# EAGLE library part SG5841 (library mgvc)
Highly Integrated Green-Mode PWM Controller
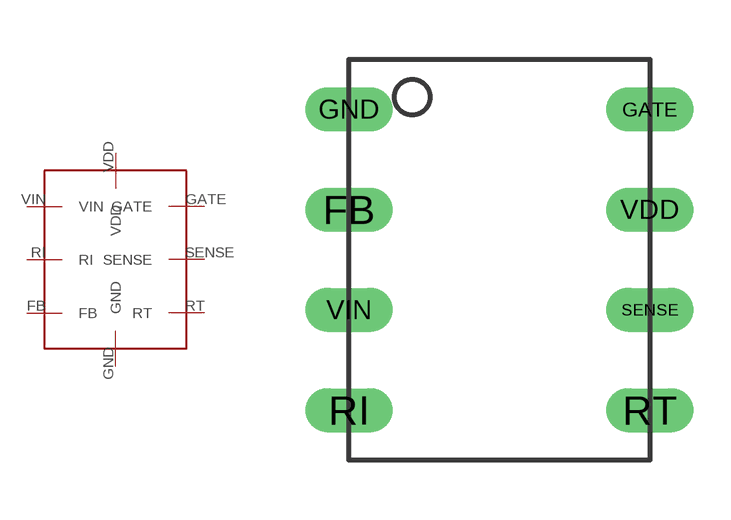
[diagram p5: symbol with the pads of SG5841; footprint SG5841]

Designator prefix -

## SG5841  [SG5841]
FB  FB
GATE  GATE
GND  GND
RI  RI
RT  RT
SENSE  SENSE
VDD  VDD
VIN  VIN

## Footprint SG5841 (pad centres in mm)
drill 0.6 long: FB 0,6.35; GATE 7.62,8.89; GND 0,8.89; RI 0,1.27; RT 7.62,1.27; SENSE 7.62,3.81; VDD 7.62,6.35; VIN 0,3.81